# Altium integrated library TI Power Management PCMCIA and USB.IntLib: 328 symbols (part 5 of 14)
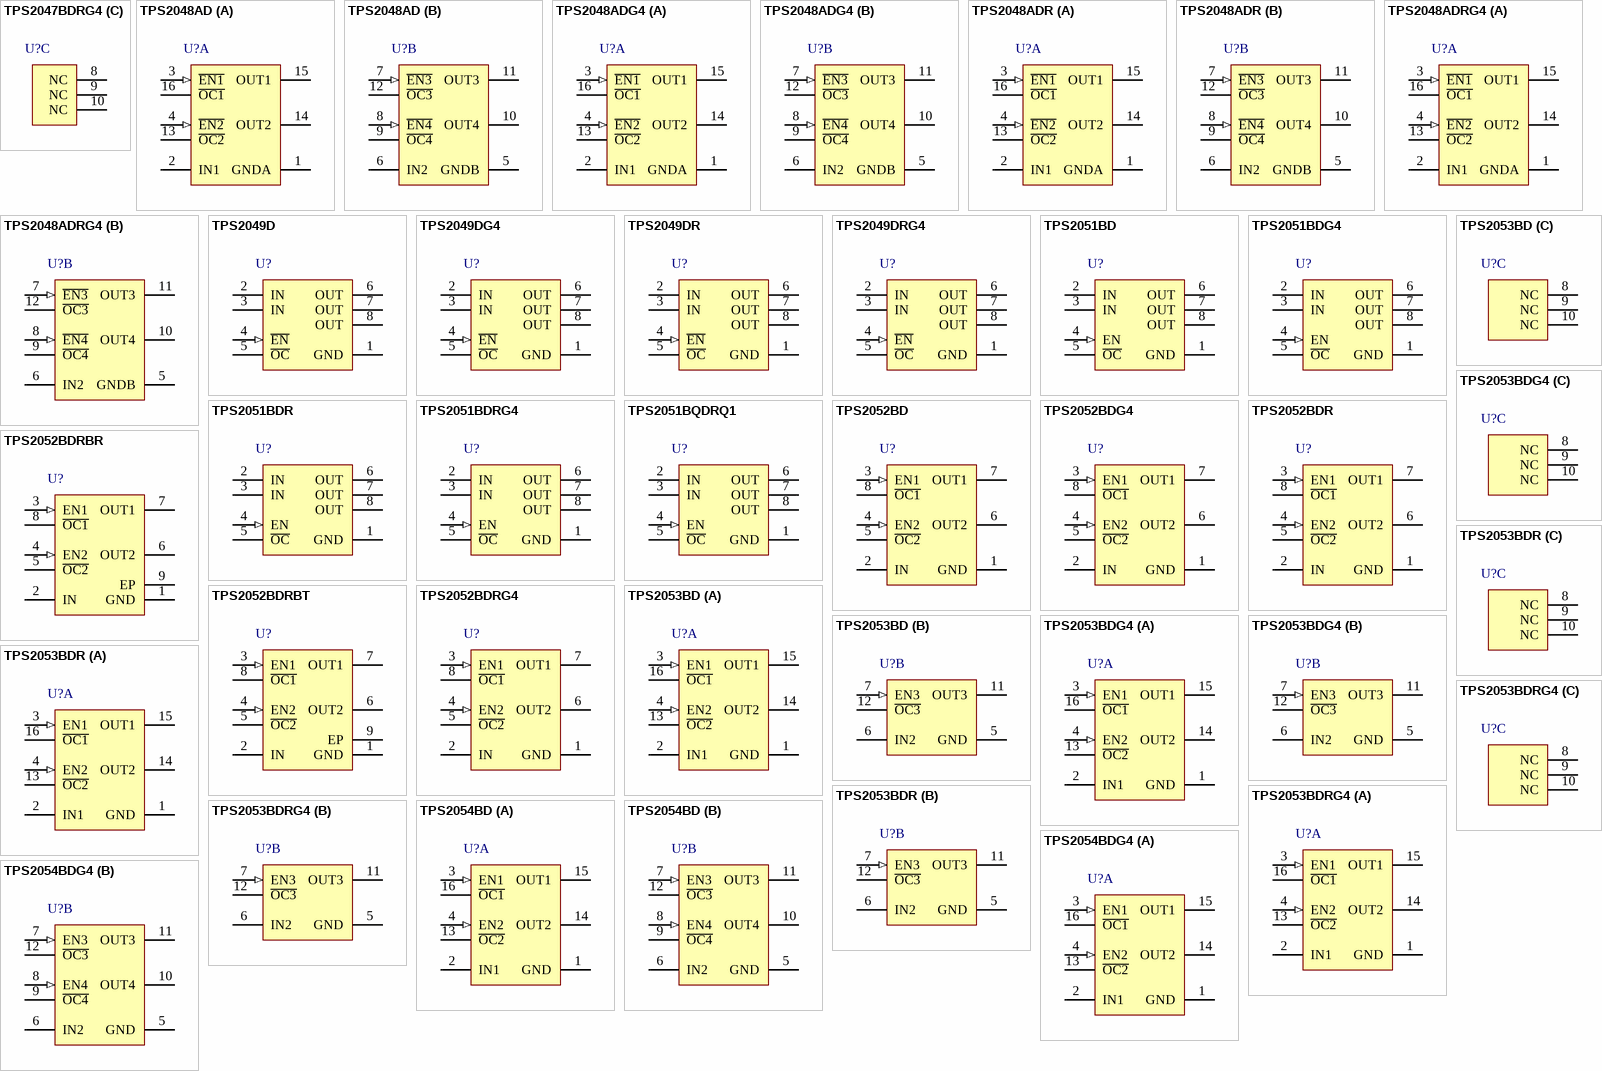
[diagram p14: symbols TPS2047BDRG4 to TPS2054BDG4]

## TPS2051BQDRQ1
designator U?
Automotive Catalog Single Current-Limited Power-Distribution Switch, 1 A Current Limit, -40 to 125 degC, 8-pin SOIC (D), Green (RoHS & no Sb/Br); Manufacturer: Texas Instruments; PartNumber: TPS2051BQDRQ1; Continuous Current(Max)(A): 0.5; Current Limit(A): 1; Enable: Active High; rDS(on) per FET(Typ)(mOhms): 70; Vin(Max)(V): 5.5; Vin(Min)(V): 2.7; DatasheetVersion: SLVS782B; PackageVersion: revM, Jun-2011; PackageReference: D8; PackageDescription: 8-Pin Plastic Small Outline Integrated Circuit, 4.9 x 3.9 mm, Pitch 1.27 mm Pitch; Supplier 1: Digi-Key; Supplier Part Number 1: 296-23725-2-ND; Supplier 2: Digi-Key; Supplier Part Number 2: 296-23725-1-ND; Supplier 3: Digi-Key; Supplier Part Number 3: 296-23725-6-ND; Supplier 4: Newark; Supplier Part Number 4: 65M6325; Supplier 5: Mouser; Supplier Part Number 5: 595-TPS2051BQDRQ1; Eco-Plan: Green (RoHS & no Sb/Br); Number of Switches: 1; Rating: Automotive; Mounting Technology: Surface Mount; Code_JEDEC: MS-012AA; ComponentLink1Description: Datasheet; ComponentLink1URL: http://www.ti.com/general/docs/lit/getliterature.tsp?genericPartNumber=TPS2051B-Q1&fileType=pdf
footprint D8_N (SOIC, 8-Leads, Body 4.9x3.9mm, Pitch 1.27mm, IPC Medium Density)
footprint D8_L (SOIC, 8-Leads, Body 4.9x3.9mm, Pitch 1.27mm, IPC High Density)
footprint D8_M (SOIC, 8-Leads, Body 4.9x3.9mm, Pitch 1.27mm, IPC Low Density)
pins: 1 GND (power) "Ground", 2 IN (power) "Input voltage", 3 IN (power) "Input voltage", 4 EN (in) "Enable input, logic high turns on power switch", 5 ~{OC} (oc) "Overcurrent open-drain output, active low", 6 OUT (power) "Power-switch output", 7 OUT (power) "Power-switch output", 8 OUT (power) "Power-switch output"

## TPS2052BD
designator U?
Current-Limited, Power-Distribution Switch, 1 A Current Limit, -40 to 85 degC, 8-pin SOIC (D), Green (RoHS & no Sb/Br); Manufacturer: Texas Instruments; PartNumber: TPS2052BD; Continuous Current(Max)(A): 0.5; Current Limit(A): 1; Enable: Active High; NEMKO: TRUE; Number of Switches: 2; Rating: Catalog; rDS(on) per FET(Typ)(mOhms): 70; Vin(Max)(V): 5.5; Vin(Min)(V): 2.7; DatasheetVersion: SLVS514L; PackageVersion: revM, Jun-2011; PackageReference: D8; PackageDescription: 8-Pin Plastic Small Outline Integrated Circuit, 4.9 x 3.9 mm, Pitch 1.27 mm Pitch; Supplier 1: Digi-Key; Supplier Part Number 1: 296-34585-5-ND; Supplier 2: Newark; Supplier Part Number 2: 44J2496; Supplier 3: Mouser; Supplier Part Number 3: 595-TPS2052BD; Eco-Plan: Green (RoHS & no Sb/Br); UL Listed: TRUE; Mounting Technology: Surface Mount; Code_JEDEC: MS-012AA; ComponentLink1Description: Datasheet; ComponentLink1URL: http://www.ti.com/general/docs/lit/getliterature.tsp?genericPartNumber=TPS2052B&fileType=pdf
footprint D8_N (SOIC, 8-Leads, Body 4.9x3.9mm, Pitch 1.27mm, IPC Medium Density)
footprint D8_L (SOIC, 8-Leads, Body 4.9x3.9mm, Pitch 1.27mm, IPC High Density)
footprint D8_M (SOIC, 8-Leads, Body 4.9x3.9mm, Pitch 1.27mm, IPC Low Density)
pins: 1 GND (power) "Ground", 2 IN (power) "Input voltage", 3 EN1 (in) "Enable input, logic high turns on power switch IN-OUT1", 4 EN2 (in) "Enable input, logic high turns on power switch IN-OUT2", 5 ~{OC2} (oc) "Overcurrent, open-drain output, active low, IN-OUT2", 6 OUT2 (power) "Power-switch output, IN-OUT2", 7 OUT1 (power) "Power-switch output, IN-OUT1", 8 ~{OC1} (oc) "Overcurrent, open-drain output, active low, IN-OUT1"

## TPS2052BDG4
designator U?
Current-Limited, Power-Distribution Switch, 1 A Current Limit, -40 to 85 degC, 8-pin SOIC (D), Green (RoHS & no Sb/Br); Manufacturer: Texas Instruments; PartNumber: TPS2052BDG4; Continuous Current(Max)(A): 0.5; Current Limit(A): 1; Enable: Active High; NEMKO: TRUE; Number of Switches: 2; Rating: Catalog; rDS(on) per FET(Typ)(mOhms): 70; Vin(Max)(V): 5.5; Vin(Min)(V): 2.7; DatasheetVersion: SLVS514L; PackageVersion: revM, Jun-2011; PackageReference: D8; PackageDescription: 8-Pin Plastic Small Outline Integrated Circuit, 4.9 x 3.9 mm, Pitch 1.27 mm Pitch; Supplier 1: Digi-Key; Supplier Part Number 1: TPS2052BDG4-ND; Supplier 2: Newark; Supplier Part Number 2: 33K7523; Supplier 3: Mouser; Supplier Part Number 3: 595-TPS2052BDG4; Eco-Plan: Green (RoHS & no Sb/Br); UL Listed: TRUE; Mounting Technology: Surface Mount; Code_JEDEC: MS-012AA; ComponentLink1Description: Datasheet; ComponentLink1URL: http://www.ti.com/general/docs/lit/getliterature.tsp?genericPartNumber=TPS2052B&fileType=pdf
footprint D8_N (SOIC, 8-Leads, Body 4.9x3.9mm, Pitch 1.27mm, IPC Medium Density)
footprint D8_L (SOIC, 8-Leads, Body 4.9x3.9mm, Pitch 1.27mm, IPC High Density)
footprint D8_M (SOIC, 8-Leads, Body 4.9x3.9mm, Pitch 1.27mm, IPC Low Density)
pins: 1 GND (power) "Ground", 2 IN (power) "Input voltage", 3 EN1 (in) "Enable input, logic high turns on power switch IN-OUT1", 4 EN2 (in) "Enable input, logic high turns on power switch IN-OUT2", 5 ~{OC2} (oc) "Overcurrent, open-drain output, active low, IN-OUT2", 6 OUT2 (power) "Power-switch output, IN-OUT2", 7 OUT1 (power) "Power-switch output, IN-OUT1", 8 ~{OC1} (oc) "Overcurrent, open-drain output, active low, IN-OUT1"

## TPS2052BDR
designator U?
Current-Limited, Power-Distribution Switch, 1 A Current Limit, -40 to 85 degC, 8-pin SOIC (D), Green (RoHS & no Sb/Br); Manufacturer: Texas Instruments; PartNumber: TPS2052BDR; Continuous Current(Max)(A): 0.5; Current Limit(A): 1; Enable: Active High; NEMKO: TRUE; Number of Switches: 2; Rating: Catalog; rDS(on) per FET(Typ)(mOhms): 70; Vin(Max)(V): 5.5; Vin(Min)(V): 2.7; DatasheetVersion: SLVS514L; PackageVersion: revM, Jun-2011; PackageReference: D8; PackageDescription: 8-Pin Plastic Small Outline Integrated Circuit, 4.9 x 3.9 mm, Pitch 1.27 mm Pitch; Supplier 1: Digi-Key; Supplier Part Number 1: 296-17451-2-ND; Supplier 2: Digi-Key; Supplier Part Number 2: 296-17451-1-ND; Supplier 3: Digi-Key; Supplier Part Number 3: 296-17451-6-ND; Supplier 4: Newark; Supplier Part Number 4: 44J2499; Supplier 5: Mouser; Supplier Part Number 5: 595-TPS2052BDR; Eco-Plan: Green (RoHS & no Sb/Br); UL Listed: TRUE; Mounting Technology: Surface Mount; Code_JEDEC: MS-012AA; ComponentLink1Description: Datasheet; ComponentLink1URL: http://www.ti.com/general/docs/lit/getliterature.tsp?genericPartNumber=TPS2052B&fileType=pdf
footprint D8_N (SOIC, 8-Leads, Body 4.9x3.9mm, Pitch 1.27mm, IPC Medium Density)
footprint D8_L (SOIC, 8-Leads, Body 4.9x3.9mm, Pitch 1.27mm, IPC High Density)
footprint D8_M (SOIC, 8-Leads, Body 4.9x3.9mm, Pitch 1.27mm, IPC Low Density)
pins: 1 GND (power) "Ground", 2 IN (power) "Input voltage", 3 EN1 (in) "Enable input, logic high turns on power switch IN-OUT1", 4 EN2 (in) "Enable input, logic high turns on power switch IN-OUT2", 5 ~{OC2} (oc) "Overcurrent, open-drain output, active low, IN-OUT2", 6 OUT2 (power) "Power-switch output, IN-OUT2", 7 OUT1 (power) "Power-switch output, IN-OUT1", 8 ~{OC1} (oc) "Overcurrent, open-drain output, active low, IN-OUT1"

## TPS2052BDRBR
designator U?
Current-Limited, Power-Distribution Switch, 1 A Current Limit, -40 to 85 degC, 8-pin SON (DRB), Green (RoHS & no Sb/Br); Manufacturer: Texas Instruments; PartNumber: TPS2052BDRBR; Continuous Current(Max)(A): 0.5; Current Limit(A): 1; Enable: Active High; NEMKO: TRUE; Number of Switches: 2; Rating: Catalog; rDS(on) per FET(Typ)(mOhms): 70; Vin(Max)(V): 5.5; Vin(Min)(V): 2.7; DatasheetVersion: SLVS514L; PackageVersion: revK, Jun-2012; PackageReference: DRB8-2400X1650TP; PackageDescription: 8-Pin Plastic Small Outline No-Lead, 3 x 3 x 1 mm Body, 0.65 mm Pitch, Exposed Pad; Supplier 1: Digi-Key; Supplier Part Number 1: TPS2052BDRBR-ND; Supplier 2: Newark; Supplier Part Number 2: 34P6467; Supplier 3: Mouser; Supplier Part Number 3: 595-TPS2052BDRBR; Eco-Plan: Green (RoHS & no Sb/Br); UL Listed: TRUE; Mounting Technology: Surface Mount; ComponentLink1Description: Datasheet; ComponentLink1URL: http://www.ti.com/general/docs/lit/getliterature.tsp?genericPartNumber=TPS2052B&fileType=pdf
footprint DRB8-2400X1650TP (SON, 8-Leads, Body 3x3mm, Pitch 0.65mm, Thermal Pad 2.4x1.65mm, TI Recommended)
pins: 1 GND (power) "Ground", 2 IN (power) "Input voltage", 3 EN1 (in) "Enable input, logic high turns on power switch IN-OUT1", 4 EN2 (in) "Enable input, logic high turns on power switch IN-OUT2", 5 ~{OC2} (oc) "Overcurrent, open-drain output, active low, IN-OUT2", 6 OUT2 (power) "Power-switch output, IN-OUT2", 7 OUT1 (power) "Power-switch output, IN-OUT1", 8 ~{OC1} (oc) "Overcurrent, open-drain output, active low, IN-OUT1", 9 EP (power) "Internally connected to GND; used to heat-sink the part to the circuit board traces. Should be connected to GND pin."

## TPS2052BDRBT
designator U?
Current-Limited, Power-Distribution Switch, 1 A Current Limit, -40 to 85 degC, 8-pin SON (DRB), Green (RoHS & no Sb/Br); Manufacturer: Texas Instruments; PartNumber: TPS2052BDRBT; Continuous Current(Max)(A): 0.5; Current Limit(A): 1; Enable: Active High; NEMKO: TRUE; Number of Switches: 2; Rating: Catalog; rDS(on) per FET(Typ)(mOhms): 70; Vin(Max)(V): 5.5; Vin(Min)(V): 2.7; DatasheetVersion: SLVS514L; PackageVersion: revK, Jun-2012; PackageReference: DRB8-2400X1650TP; PackageDescription: 8-Pin Plastic Small Outline No-Lead, 3 x 3 x 1 mm Body, 0.65 mm Pitch, Exposed Pad; Supplier 1: Digi-Key; Supplier Part Number 1: 296-23967-2-ND; Supplier 2: Digi-Key; Supplier Part Number 2: 296-23967-1-ND; Supplier 3: Digi-Key; Supplier Part Number 3: 296-23967-6-ND; Supplier 4: Newark; Supplier Part Number 4: 34P6468; Supplier 5: Mouser; Supplier Part Number 5: 595-TPS2052BDRBT; Eco-Plan: Green (RoHS & no Sb/Br); UL Listed: TRUE; Mounting Technology: Surface Mount; ComponentLink1Description: Datasheet; ComponentLink1URL: http://www.ti.com/general/docs/lit/getliterature.tsp?genericPartNumber=TPS2052B&fileType=pdf
footprint DRB8-2400X1650TP (SON, 8-Leads, Body 3x3mm, Pitch 0.65mm, Thermal Pad 2.4x1.65mm, TI Recommended)
pins: 1 GND (power) "Ground", 2 IN (power) "Input voltage", 3 EN1 (in) "Enable input, logic high turns on power switch IN-OUT1", 4 EN2 (in) "Enable input, logic high turns on power switch IN-OUT2", 5 ~{OC2} (oc) "Overcurrent, open-drain output, active low, IN-OUT2", 6 OUT2 (power) "Power-switch output, IN-OUT2", 7 OUT1 (power) "Power-switch output, IN-OUT1", 8 ~{OC1} (oc) "Overcurrent, open-drain output, active low, IN-OUT1", 9 EP (power) "Internally connected to GND; used to heat-sink the part to the circuit board traces. Should be connected to GND pin."

## TPS2052BDRG4
designator U?
Current-Limited, Power-Distribution Switch, 1 A Current Limit, -40 to 85 degC, 8-pin SOIC (D), Green (RoHS & no Sb/Br); Manufacturer: Texas Instruments; PartNumber: TPS2052BDRG4; Continuous Current(Max)(A): 0.5; Current Limit(A): 1; Enable: Active High; NEMKO: TRUE; Number of Switches: 2; Rating: Catalog; rDS(on) per FET(Typ)(mOhms): 70; Vin(Max)(V): 5.5; Vin(Min)(V): 2.7; DatasheetVersion: SLVS514L; PackageVersion: revM, Jun-2011; PackageReference: D8; PackageDescription: 8-Pin Plastic Small Outline Integrated Circuit, 4.9 x 3.9 mm, Pitch 1.27 mm Pitch; Supplier 1: Digi-Key; Supplier Part Number 1: TPS2052BDRG4-ND; Supplier 2: Newark; Supplier Part Number 2: 33K7524; Supplier 3: Mouser; Supplier Part Number 3: 595-TPS2052BDRG4; Eco-Plan: Green (RoHS & no Sb/Br); UL Listed: TRUE; Mounting Technology: Surface Mount; Code_JEDEC: MS-012AA; ComponentLink1Description: Datasheet; ComponentLink1URL: http://www.ti.com/general/docs/lit/getliterature.tsp?genericPartNumber=TPS2052B&fileType=pdf
footprint D8_N (SOIC, 8-Leads, Body 4.9x3.9mm, Pitch 1.27mm, IPC Medium Density)
footprint D8_L (SOIC, 8-Leads, Body 4.9x3.9mm, Pitch 1.27mm, IPC High Density)
footprint D8_M (SOIC, 8-Leads, Body 4.9x3.9mm, Pitch 1.27mm, IPC Low Density)
pins: 1 GND (power) "Ground", 2 IN (power) "Input voltage", 3 EN1 (in) "Enable input, logic high turns on power switch IN-OUT1", 4 EN2 (in) "Enable input, logic high turns on power switch IN-OUT2", 5 ~{OC2} (oc) "Overcurrent, open-drain output, active low, IN-OUT2", 6 OUT2 (power) "Power-switch output, IN-OUT2", 7 OUT1 (power) "Power-switch output, IN-OUT1", 8 ~{OC1} (oc) "Overcurrent, open-drain output, active low, IN-OUT1"

## TPS2053BD
designator U?
Triple Power-Distribution & USB Power Switch, 1 A Current Limit, -40 to 85 degC, 16-pin SOIC (D), Green (RoHS & no Sb/Br); Manufacturer: Texas Instruments; PartNumber: TPS2053BD; Continuous Current(Max)(A): 0.5; Current Limit(A): 1; Enable: Active High; NEMKO: TRUE; Number of Switches: 3; Rating: Catalog; rDS(on) per FET(Typ)(mOhms): 70; Vin(Max)(V): 5.5; Vin(Min)(V): 2.7; DatasheetVersion: SLVS514L; PackageVersion: revM, Jun-2011; PackageReference: D16; PackageDescription: 16-Pin Plastic Small Outline Integrated Circuit, 9.9 x 3.9 mm, Pitch 1.27 mm Pitch; Supplier 1: Digi-Key; Supplier Part Number 1: 296-18932-5-ND; Supplier 2: Newark; Supplier Part Number 2: 01J0952; Supplier 3: Mouser; Supplier Part Number 3: 595-TPS2053BD; Eco-Plan: Green (RoHS & no Sb/Br); UL Listed: TRUE; Mounting Technology: Surface Mount; Code_JEDEC: MS-012AC; ComponentLink1Description: Datasheet; ComponentLink1URL: http://www.ti.com/general/docs/lit/getliterature.tsp?genericPartNumber=TPS2053B&fileType=pdf
footprint D16_N (SOIC, 16-Leads, Body 9.9x3.9mm, Pitch 1.27mm, IPC Medium Density)
footprint D16_L (SOIC, 16-Leads, Body 9.9x3.9mm, Pitch 1.27mm, IPC High Density)
footprint D16_M (SOIC, 16-Leads, Body 9.9x3.9mm, Pitch 1.27mm, IPC Low Density)
part A pins: 1 GND (power) "Ground", 2 IN1 (power) "Input voltage for OUT1 and OUT2", 3 EN1 (in) "Enable input, logic high turns on power switch IN1-OUT1", 4 EN2 (in) "Enable input, logic high turns on power switch IN1-OUT2", 13 ~{OC2} (oc) "Overcurrent, open-drain output, active low, IN1-OUT2", 14 OUT2 (power) "Power-switch output, IN1-OUT2", 15 OUT1 (power) "Power-switch output, IN1-OUT1", 16 ~{OC1} (oc) "Overcurrent, open-drain output, active low, IN1-OUT1"
part B pins: 5 GND (power) "Ground", 6 IN2 (power) "Input voltage for OUT3", 7 EN3 (in) "Enable input, logic high turns on power switch IN2-OUT3", 11 OUT3 (power) "Power-switch output, IN2-OUT3", 12 ~{OC3} (oc) "Overcurrent, open-drain output, active low, IN2-OUT3"
part C pins: 8 NC "No connection", 9 NC "No connection", 10 NC "No connection"

## TPS2053BDG4
designator U?
Triple Power-Distribution & USB Power Switch, 1 A Current Limit, -40 to 85 degC, 16-pin SOIC (D), Green (RoHS & no Sb/Br); Manufacturer: Texas Instruments; PartNumber: TPS2053BDG4; Continuous Current(Max)(A): 0.5; Current Limit(A): 1; Enable: Active High; NEMKO: TRUE; Number of Switches: 3; Rating: Catalog; rDS(on) per FET(Typ)(mOhms): 70; Vin(Max)(V): 5.5; Vin(Min)(V): 2.7; DatasheetVersion: SLVS514L; PackageVersion: revM, Jun-2011; PackageReference: D16; PackageDescription: 16-Pin Plastic Small Outline Integrated Circuit, 9.9 x 3.9 mm, Pitch 1.27 mm Pitch; Supplier 1: Digi-Key; Supplier Part Number 1: TPS2053BDG4-ND; Supplier 2: Newark; Supplier Part Number 2: 99K4391; Supplier 3: Mouser; Supplier Part Number 3: 595-TPS2053BDG4; Eco-Plan: Green (RoHS & no Sb/Br); UL Listed: TRUE; Mounting Technology: Surface Mount; Code_JEDEC: MS-012AC; ComponentLink1Description: Datasheet; ComponentLink1URL: http://www.ti.com/general/docs/lit/getliterature.tsp?genericPartNumber=TPS2053B&fileType=pdf
footprint D16_N (SOIC, 16-Leads, Body 9.9x3.9mm, Pitch 1.27mm, IPC Medium Density)
footprint D16_L (SOIC, 16-Leads, Body 9.9x3.9mm, Pitch 1.27mm, IPC High Density)
footprint D16_M (SOIC, 16-Leads, Body 9.9x3.9mm, Pitch 1.27mm, IPC Low Density)
part A pins: 1 GND (power) "Ground", 2 IN1 (power) "Input voltage for OUT1 and OUT2", 3 EN1 (in) "Enable input, logic high turns on power switch IN1-OUT1", 4 EN2 (in) "Enable input, logic high turns on power switch IN1-OUT2", 13 ~{OC2} (oc) "Overcurrent, open-drain output, active low, IN1-OUT2", 14 OUT2 (power) "Power-switch output, IN1-OUT2", 15 OUT1 (power) "Power-switch output, IN1-OUT1", 16 ~{OC1} (oc) "Overcurrent, open-drain output, active low, IN1-OUT1"
part B pins: 5 GND (power) "Ground", 6 IN2 (power) "Input voltage for OUT3", 7 EN3 (in) "Enable input, logic high turns on power switch IN2-OUT3", 11 OUT3 (power) "Power-switch output, IN2-OUT3", 12 ~{OC3} (oc) "Overcurrent, open-drain output, active low, IN2-OUT3"
part C pins: 8 NC "No connection", 9 NC "No connection", 10 NC "No connection"

## TPS2053BDR
designator U?
Triple Power-Distribution & USB Power Switch, 1 A Current Limit, -40 to 85 degC, 16-pin SOIC (D), Green (RoHS & no Sb/Br); Manufacturer: Texas Instruments; PartNumber: TPS2053BDR; Continuous Current(Max)(A): 0.5; Current Limit(A): 1; Enable: Active High; NEMKO: TRUE; Number of Switches: 3; Rating: Catalog; rDS(on) per FET(Typ)(mOhms): 70; Vin(Max)(V): 5.5; Vin(Min)(V): 2.7; DatasheetVersion: SLVS514L; PackageVersion: revM, Jun-2011; PackageReference: D16; PackageDescription: 16-Pin Plastic Small Outline Integrated Circuit, 9.9 x 3.9 mm, Pitch 1.27 mm Pitch; Supplier 1: Digi-Key; Supplier Part Number 1: TPS2053BDR-ND; Supplier 2: Newark; Supplier Part Number 2: 01J0953; Supplier 3: Mouser; Supplier Part Number 3: 595-TPS2053BDR; Eco-Plan: Green (RoHS & no Sb/Br); UL Listed: TRUE; Mounting Technology: Surface Mount; Code_JEDEC: MS-012AC; ComponentLink1Description: Datasheet; ComponentLink1URL: http://www.ti.com/general/docs/lit/getliterature.tsp?genericPartNumber=TPS2053B&fileType=pdf
footprint D16_N (SOIC, 16-Leads, Body 9.9x3.9mm, Pitch 1.27mm, IPC Medium Density)
footprint D16_L (SOIC, 16-Leads, Body 9.9x3.9mm, Pitch 1.27mm, IPC High Density)
footprint D16_M (SOIC, 16-Leads, Body 9.9x3.9mm, Pitch 1.27mm, IPC Low Density)
part A pins: 1 GND (power) "Ground", 2 IN1 (power) "Input voltage for OUT1 and OUT2", 3 EN1 (in) "Enable input, logic high turns on power switch IN1-OUT1", 4 EN2 (in) "Enable input, logic high turns on power switch IN1-OUT2", 13 ~{OC2} (oc) "Overcurrent, open-drain output, active low, IN1-OUT2", 14 OUT2 (power) "Power-switch output, IN1-OUT2", 15 OUT1 (power) "Power-switch output, IN1-OUT1", 16 ~{OC1} (oc) "Overcurrent, open-drain output, active low, IN1-OUT1"
part B pins: 5 GND (power) "Ground", 6 IN2 (power) "Input voltage for OUT3", 7 EN3 (in) "Enable input, logic high turns on power switch IN2-OUT3", 11 OUT3 (power) "Power-switch output, IN2-OUT3", 12 ~{OC3} (oc) "Overcurrent, open-drain output, active low, IN2-OUT3"
part C pins: 8 NC "No connection", 9 NC "No connection", 10 NC "No connection"

## TPS2053BDRG4
designator U?
Triple Power-Distribution & USB Power Switch, 1 A Current Limit, -40 to 85 degC, 16-pin SOIC (D), Green (RoHS & no Sb/Br); Manufacturer: Texas Instruments; PartNumber: TPS2053BDRG4; Continuous Current(Max)(A): 0.5; Current Limit(A): 1; Enable: Active High; NEMKO: TRUE; Number of Switches: 3; Rating: Catalog; rDS(on) per FET(Typ)(mOhms): 70; Vin(Max)(V): 5.5; Vin(Min)(V): 2.7; DatasheetVersion: SLVS514L; PackageVersion: revM, Jun-2011; PackageReference: D16; PackageDescription: 16-Pin Plastic Small Outline Integrated Circuit, 9.9 x 3.9 mm, Pitch 1.27 mm Pitch; Supplier 1: Digi-Key; Supplier Part Number 1: TPS2053BDRG4-ND; Supplier 2: Newark; Supplier Part Number 2: 33K7525; Supplier 3: Mouser; Supplier Part Number 3: 595-TPS2053BDRG4; Eco-Plan: Green (RoHS & no Sb/Br); UL Listed: TRUE; Mounting Technology: Surface Mount; Code_JEDEC: MS-012AC; ComponentLink1Description: Datasheet; ComponentLink1URL: http://www.ti.com/general/docs/lit/getliterature.tsp?genericPartNumber=TPS2053B&fileType=pdf
footprint D16_N (SOIC, 16-Leads, Body 9.9x3.9mm, Pitch 1.27mm, IPC Medium Density)
footprint D16_L (SOIC, 16-Leads, Body 9.9x3.9mm, Pitch 1.27mm, IPC High Density)
footprint D16_M (SOIC, 16-Leads, Body 9.9x3.9mm, Pitch 1.27mm, IPC Low Density)
part A pins: 1 GND (power) "Ground", 2 IN1 (power) "Input voltage for OUT1 and OUT2", 3 EN1 (in) "Enable input, logic high turns on power switch IN1-OUT1", 4 EN2 (in) "Enable input, logic high turns on power switch IN1-OUT2", 13 ~{OC2} (oc) "Overcurrent, open-drain output, active low, IN1-OUT2", 14 OUT2 (power) "Power-switch output, IN1-OUT2", 15 OUT1 (power) "Power-switch output, IN1-OUT1", 16 ~{OC1} (oc) "Overcurrent, open-drain output, active low, IN1-OUT1"
part B pins: 5 GND (power) "Ground", 6 IN2 (power) "Input voltage for OUT3", 7 EN3 (in) "Enable input, logic high turns on power switch IN2-OUT3", 11 OUT3 (power) "Power-switch output, IN2-OUT3", 12 ~{OC3} (oc) "Overcurrent, open-drain output, active low, IN2-OUT3"
part C pins: 8 NC "No connection", 9 NC "No connection", 10 NC "No connection"

## TPS2054BD
designator U?
Quad Current-Limited Power-Distribution Switch, 1 A Current Limit, -40 to 85 degC, 16-pin SOIC (D), Green (RoHS & no Sb/Br); Manufacturer: Texas Instruments; PartNumber: TPS2054BD; Continuous Current(Max)(A): 0.5; Current Limit(A): 1; Enable: Active High; NEMKO: TRUE; Number of Switches: 4; Rating: Catalog; rDS(on) per FET(Typ)(mOhms): 70; Vin(Max)(V): 5.5; Vin(Min)(V): 2.7; DatasheetVersion: SLVS514L; PackageVersion: revM, Jun-2011; PackageReference: D16; PackageDescription: 16-Pin Plastic Small Outline Integrated Circuit, 9.9 x 3.9 mm, Pitch 1.27 mm Pitch; Supplier 1: Digi-Key; Supplier Part Number 1: 296-34586-5-ND; Supplier 2: Newark; Supplier Part Number 2: 10J9739; Supplier 3: Mouser; Supplier Part Number 3: 595-TPS2054BD; Eco-Plan: Green (RoHS & no Sb/Br); UL Listed: TRUE; Mounting Technology: Surface Mount; Code_JEDEC: MS-012AC; ComponentLink1Description: Datasheet; ComponentLink1URL: http://www.ti.com/general/docs/lit/getliterature.tsp?genericPartNumber=TPS2054B&fileType=pdf
footprint D16_N (SOIC, 16-Leads, Body 9.9x3.9mm, Pitch 1.27mm, IPC Medium Density)
footprint D16_L (SOIC, 16-Leads, Body 9.9x3.9mm, Pitch 1.27mm, IPC High Density)
footprint D16_M (SOIC, 16-Leads, Body 9.9x3.9mm, Pitch 1.27mm, IPC Low Density)
part A pins: 1 GND (power) "Ground", 2 IN1 (power) "Input voltage for OUT1 and OUT2", 3 EN1 (in) "Enable input, logic high turns on power switch IN1-OUT1", 4 EN2 (in) "Enable input, logic high turns on power switch IN1-OUT2", 13 ~{OC2} (oc) "Overcurrent, open-drain output, active low, IN1-OUT2", 14 OUT2 (power) "Power-switch output, IN1-OUT2", 15 OUT1 (power) "Power-switch output, IN1-OUT1", 16 ~{OC1} (oc) "Overcurrent, open-drain output, active low, IN1-OUT1"
part B pins: 5 GND (power) "Ground", 6 IN2 (power) "Input voltage for OUT3", 7 EN3 (in) "Enable input, logic high turns on power switch IN2-OUT3", 8 EN4 (in) "Enable input, logic high turns on power switch IN2-OUT4", 9 ~{OC4} (oc) "Overcurrent, open-drain output, active low, IN2-OUT4", 10 OUT4 (power) "Power-switch output, IN2-OUT4", 11 OUT3 (power) "Power-switch output, IN2-OUT3", 12 ~{OC3} (oc) "Overcurrent, open-drain output, active low, IN2-OUT3"

## TPS2054BDG4
designator U?
Quad Current-Limited Power-Distribution Switch, 1 A Current Limit, -40 to 85 degC, 16-pin SOIC (D), Green (RoHS & no Sb/Br); Manufacturer: Texas Instruments; PartNumber: TPS2054BDG4; Continuous Current(Max)(A): 0.5; Current Limit(A): 1; Enable: Active High; NEMKO: TRUE; Number of Switches: 4; Rating: Catalog; rDS(on) per FET(Typ)(mOhms): 70; Vin(Max)(V): 5.5; Vin(Min)(V): 2.7; DatasheetVersion: SLVS514L; PackageVersion: revM, Jun-2011; PackageReference: D16; PackageDescription: 16-Pin Plastic Small Outline Integrated Circuit, 9.9 x 3.9 mm, Pitch 1.27 mm Pitch; Supplier 1: Digi-Key; Supplier Part Number 1: TPS2054BDG4-ND; Supplier 2: Mouser; Supplier Part Number 2: 595-TPS2054BDG4; Eco-Plan: Green (RoHS & no Sb/Br); UL Listed: TRUE; Mounting Technology: Surface Mount; Code_JEDEC: MS-012AC; ComponentLink1Description: Datasheet; ComponentLink1URL: http://www.ti.com/general/docs/lit/getliterature.tsp?genericPartNumber=TPS2054B&fileType=pdf
footprint D16_N (SOIC, 16-Leads, Body 9.9x3.9mm, Pitch 1.27mm, IPC Medium Density)
footprint D16_L (SOIC, 16-Leads, Body 9.9x3.9mm, Pitch 1.27mm, IPC High Density)
footprint D16_M (SOIC, 16-Leads, Body 9.9x3.9mm, Pitch 1.27mm, IPC Low Density)
part A pins: 1 GND (power) "Ground", 2 IN1 (power) "Input voltage for OUT1 and OUT2", 3 EN1 (in) "Enable input, logic high turns on power switch IN1-OUT1", 4 EN2 (in) "Enable input, logic high turns on power switch IN1-OUT2", 13 ~{OC2} (oc) "Overcurrent, open-drain output, active low, IN1-OUT2", 14 OUT2 (power) "Power-switch output, IN1-OUT2", 15 OUT1 (power) "Power-switch output, IN1-OUT1", 16 ~{OC1} (oc) "Overcurrent, open-drain output, active low, IN1-OUT1"
part B pins: 5 GND (power) "Ground", 6 IN2 (power) "Input voltage for OUT3", 7 EN3 (in) "Enable input, logic high turns on power switch IN2-OUT3", 8 EN4 (in) "Enable input, logic high turns on power switch IN2-OUT4", 9 ~{OC4} (oc) "Overcurrent, open-drain output, active low, IN2-OUT4", 10 OUT4 (power) "Power-switch output, IN2-OUT4", 11 OUT3 (power) "Power-switch output, IN2-OUT3", 12 ~{OC3} (oc) "Overcurrent, open-drain output, active low, IN2-OUT3"

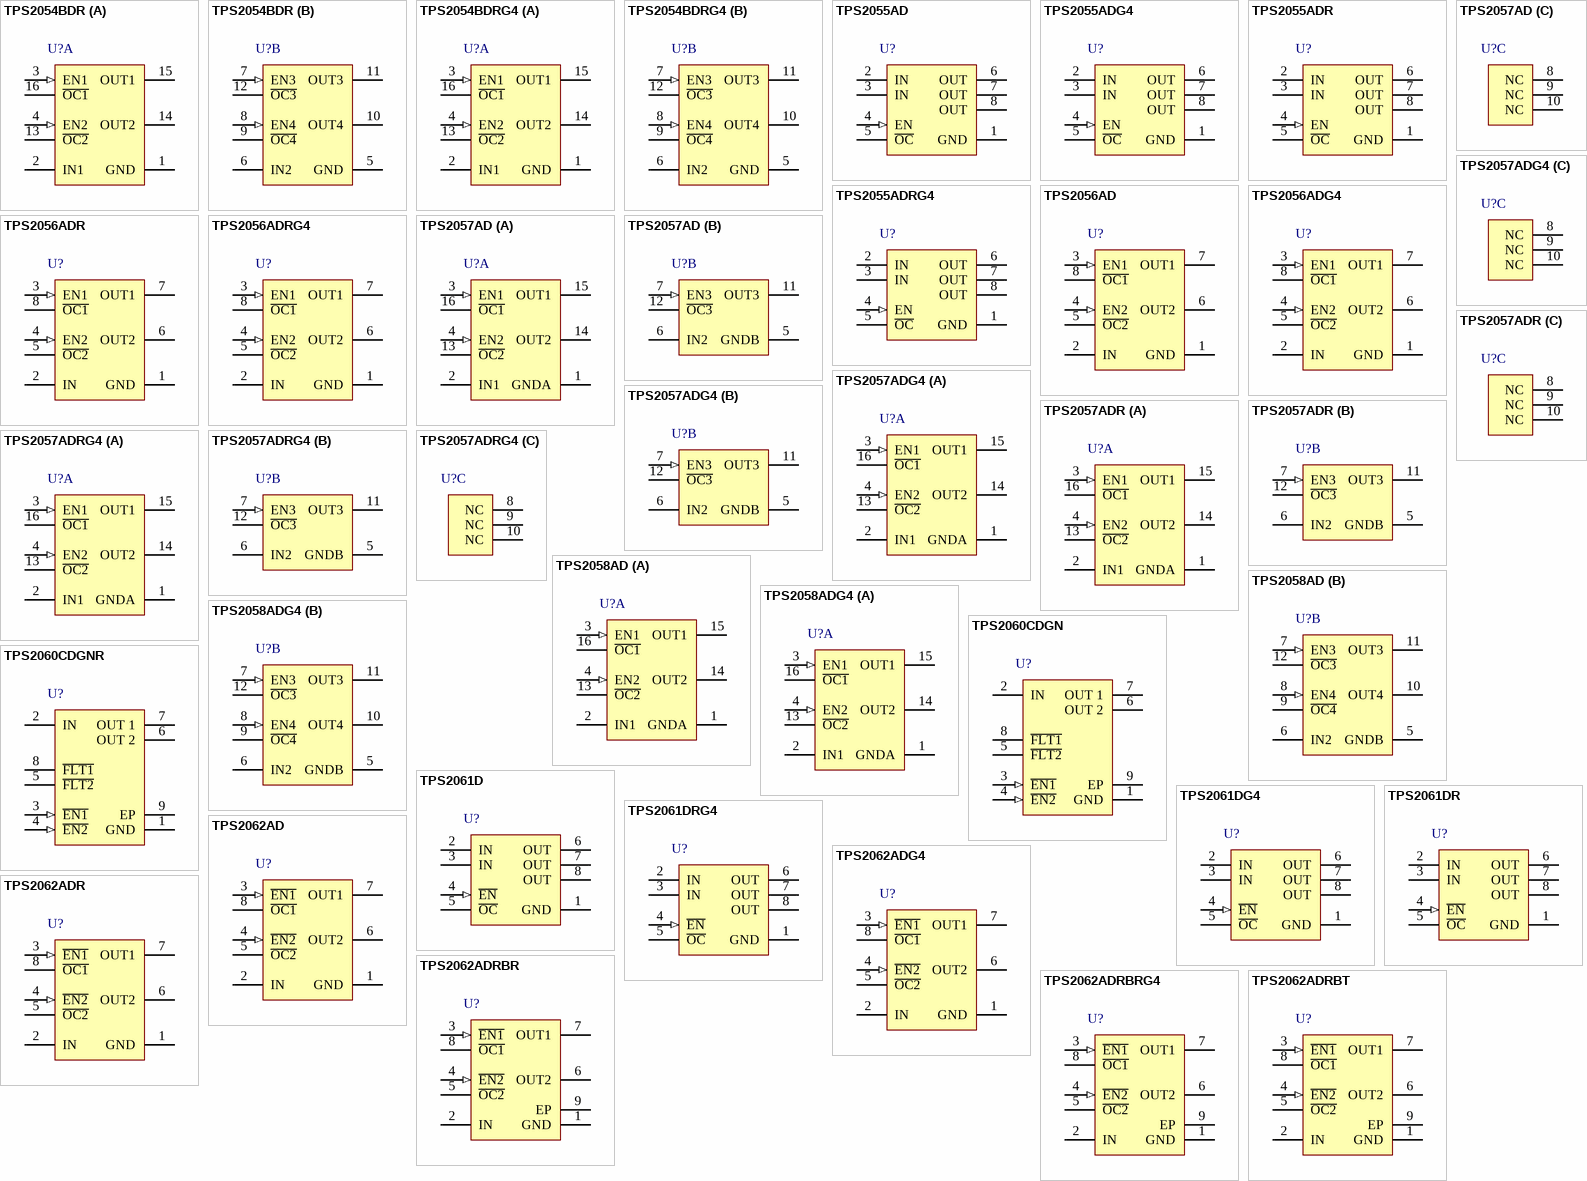
[diagram p4: symbols TPS2054BDR to TPS2062ADRBT]

## TPS2054BDR
designator U?
Quad Current-Limited Power-Distribution Switch, 1 A Current Limit, -40 to 85 degC, 16-pin SOIC (D), Green (RoHS & no Sb/Br); Manufacturer: Texas Instruments; PartNumber: TPS2054BDR; Continuous Current(Max)(A): 0.5; Current Limit(A): 1; Enable: Active High; NEMKO: TRUE; Number of Switches: 4; Rating: Catalog; rDS(on) per FET(Typ)(mOhms): 70; Vin(Max)(V): 5.5; Vin(Min)(V): 2.7; DatasheetVersion: SLVS514L; PackageVersion: revM, Jun-2011; PackageReference: D16; PackageDescription: 16-Pin Plastic Small Outline Integrated Circuit, 9.9 x 3.9 mm, Pitch 1.27 mm Pitch; Supplier 1: Digi-Key; Supplier Part Number 1: 296-16988-2-ND; Supplier 2: Digi-Key; Supplier Part Number 2: 296-16988-1-ND; Supplier 3: Digi-Key; Supplier Part Number 3: 296-16988-6-ND; Supplier 4: Newark; Supplier Part Number 4: 10J9740; Supplier 5: Mouser; Supplier Part Number 5: 595-TPS2054BDR; Eco-Plan: Green (RoHS & no Sb/Br); UL Listed: TRUE; Mounting Technology: Surface Mount; Code_JEDEC: MS-012AC; ComponentLink1Description: Datasheet; ComponentLink1URL: http://www.ti.com/general/docs/lit/getliterature.tsp?genericPartNumber=TPS2054B&fileType=pdf
footprint D16_N (SOIC, 16-Leads, Body 9.9x3.9mm, Pitch 1.27mm, IPC Medium Density)
footprint D16_L (SOIC, 16-Leads, Body 9.9x3.9mm, Pitch 1.27mm, IPC High Density)
footprint D16_M (SOIC, 16-Leads, Body 9.9x3.9mm, Pitch 1.27mm, IPC Low Density)
part A pins: 1 GND (power) "Ground", 2 IN1 (power) "Input voltage for OUT1 and OUT2", 3 EN1 (in) "Enable input, logic high turns on power switch IN1-OUT1", 4 EN2 (in) "Enable input, logic high turns on power switch IN1-OUT2", 13 ~{OC2} (oc) "Overcurrent, open-drain output, active low, IN1-OUT2", 14 OUT2 (power) "Power-switch output, IN1-OUT2", 15 OUT1 (power) "Power-switch output, IN1-OUT1", 16 ~{OC1} (oc) "Overcurrent, open-drain output, active low, IN1-OUT1"
part B pins: 5 GND (power) "Ground", 6 IN2 (power) "Input voltage for OUT3", 7 EN3 (in) "Enable input, logic high turns on power switch IN2-OUT3", 8 EN4 (in) "Enable input, logic high turns on power switch IN2-OUT4", 9 ~{OC4} (oc) "Overcurrent, open-drain output, active low, IN2-OUT4", 10 OUT4 (power) "Power-switch output, IN2-OUT4", 11 OUT3 (power) "Power-switch output, IN2-OUT3", 12 ~{OC3} (oc) "Overcurrent, open-drain output, active low, IN2-OUT3"

## TPS2054BDRG4
designator U?
Quad Current-Limited Power-Distribution Switch, 1 A Current Limit, -40 to 85 degC, 16-pin SOIC (D), Green (RoHS & no Sb/Br); Manufacturer: Texas Instruments; PartNumber: TPS2054BDRG4; Continuous Current(Max)(A): 0.5; Current Limit(A): 1; Enable: Active High; NEMKO: TRUE; Number of Switches: 4; Rating: Catalog; rDS(on) per FET(Typ)(mOhms): 70; Vin(Max)(V): 5.5; Vin(Min)(V): 2.7; DatasheetVersion: SLVS514L; PackageVersion: revM, Jun-2011; PackageReference: D16; PackageDescription: 16-Pin Plastic Small Outline Integrated Circuit, 9.9 x 3.9 mm, Pitch 1.27 mm Pitch; Supplier 1: Digi-Key; Supplier Part Number 1: TPS2054BDRG4-ND; Supplier 2: Mouser; Supplier Part Number 2: 595-TPS2054BDRG4; Eco-Plan: Green (RoHS & no Sb/Br); UL Listed: TRUE; Mounting Technology: Surface Mount; Code_JEDEC: MS-012AC; ComponentLink1Description: Datasheet; ComponentLink1URL: http://www.ti.com/general/docs/lit/getliterature.tsp?genericPartNumber=TPS2054B&fileType=pdf
footprint D16_N (SOIC, 16-Leads, Body 9.9x3.9mm, Pitch 1.27mm, IPC Medium Density)
footprint D16_L (SOIC, 16-Leads, Body 9.9x3.9mm, Pitch 1.27mm, IPC High Density)
footprint D16_M (SOIC, 16-Leads, Body 9.9x3.9mm, Pitch 1.27mm, IPC Low Density)
part A pins: 1 GND (power) "Ground", 2 IN1 (power) "Input voltage for OUT1 and OUT2", 3 EN1 (in) "Enable input, logic high turns on power switch IN1-OUT1", 4 EN2 (in) "Enable input, logic high turns on power switch IN1-OUT2", 13 ~{OC2} (oc) "Overcurrent, open-drain output, active low, IN1-OUT2", 14 OUT2 (power) "Power-switch output, IN1-OUT2", 15 OUT1 (power) "Power-switch output, IN1-OUT1", 16 ~{OC1} (oc) "Overcurrent, open-drain output, active low, IN1-OUT1"
part B pins: 5 GND (power) "Ground", 6 IN2 (power) "Input voltage for OUT3", 7 EN3 (in) "Enable input, logic high turns on power switch IN2-OUT3", 8 EN4 (in) "Enable input, logic high turns on power switch IN2-OUT4", 9 ~{OC4} (oc) "Overcurrent, open-drain output, active low, IN2-OUT4", 10 OUT4 (power) "Power-switch output, IN2-OUT4", 11 OUT3 (power) "Power-switch output, IN2-OUT3", 12 ~{OC3} (oc) "Overcurrent, open-drain output, active low, IN2-OUT3"

## TPS2055AD
designator U?
0.345 A, 2.7 to 5.5 V Single Hi-Side MOSFET, Fault Report, Act-High Enable, 0.5 A Current Limit, 0 to 85 degC, 8-pin SOIC (D), Green (RoHS & no Sb/Br); Manufacturer: Texas Instruments; PartNumber: TPS2055AD; Continuous Current(Max)(A): 0.25; Current Limit(A): 0.5; Enable: Active High; NEMKO: TRUE; Number of Switches: 1; Rating: Catalog; rDS(on) per FET(Typ)(mOhms): 80; Vin(Max)(V): 5.5; Vin(Min)(V): 2.7; DatasheetVersion: SLVS251C; PackageVersion: revM, Jun-2011; PackageReference: D8; PackageDescription: 8-Pin Plastic Small Outline Integrated Circuit, 4.9 x 3.9 mm, Pitch 1.27 mm Pitch; Supplier 1: Digi-Key; Supplier Part Number 1: 296-3418-5-ND; Supplier 2: Newark; Supplier Part Number 2: 77C0013; Supplier 3: Mouser; Supplier Part Number 3: 595-TPS2055AD; Eco-Plan: Green (RoHS & no Sb/Br); UL Listed: TRUE; Mounting Technology: Surface Mount; Code_JEDEC: MS-012AA; ComponentLink1Description: Datasheet; ComponentLink1URL: http://www.ti.com/general/docs/lit/getliterature.tsp?genericPartNumber=TPS2055A&fileType=pdf
footprint D8_N (SOIC, 8-Leads, Body 4.9x3.9mm, Pitch 1.27mm, IPC Medium Density)
footprint D8_L (SOIC, 8-Leads, Body 4.9x3.9mm, Pitch 1.27mm, IPC High Density)
footprint D8_M (SOIC, 8-Leads, Body 4.9x3.9mm, Pitch 1.27mm, IPC Low Density)
pins: 1 GND (power) "Ground", 2 IN (power) "Input voltage", 3 IN (power) "Input voltage", 4 EN (in) "Enable input. Logic high turns on power switch.", 5 ~{OC} (oc) "Overcurrent. Open drain output active low", 6 OUT (power) "Power-switch output", 7 OUT (power) "Power-switch output", 8 OUT (power) "Power-switch output"

## TPS2055ADG4
designator U?
0.345 A, 2.7 to 5.5 V Single Hi-Side MOSFET, Fault Report, Act-High Enable, 0.5 A Current Limit, 0 to 85 degC, 8-pin SOIC (D), Green (RoHS & no Sb/Br); Manufacturer: Texas Instruments; PartNumber: TPS2055ADG4; Continuous Current(Max)(A): 0.25; Current Limit(A): 0.5; Enable: Active High; NEMKO: TRUE; Number of Switches: 1; Rating: Catalog; rDS(on) per FET(Typ)(mOhms): 80; Vin(Max)(V): 5.5; Vin(Min)(V): 2.7; DatasheetVersion: SLVS251C; PackageVersion: revM, Jun-2011; PackageReference: D8; PackageDescription: 8-Pin Plastic Small Outline Integrated Circuit, 4.9 x 3.9 mm, Pitch 1.27 mm Pitch; Supplier 1: Digi-Key; Supplier Part Number 1: TPS2055ADG4-ND; Supplier 2: Newark; Supplier Part Number 2: 67K8611; Supplier 3: Mouser; Supplier Part Number 3: 595-TPS2055ADG4; Eco-Plan: Green (RoHS & no Sb/Br); UL Listed: TRUE; Mounting Technology: Surface Mount; Code_JEDEC: MS-012AA; ComponentLink1Description: Datasheet; ComponentLink1URL: http://www.ti.com/general/docs/lit/getliterature.tsp?genericPartNumber=TPS2055A&fileType=pdf
footprint D8_N (SOIC, 8-Leads, Body 4.9x3.9mm, Pitch 1.27mm, IPC Medium Density)
footprint D8_L (SOIC, 8-Leads, Body 4.9x3.9mm, Pitch 1.27mm, IPC High Density)
footprint D8_M (SOIC, 8-Leads, Body 4.9x3.9mm, Pitch 1.27mm, IPC Low Density)
pins: 1 GND (power) "Ground", 2 IN (power) "Input voltage", 3 IN (power) "Input voltage", 4 EN (in) "Enable input. Logic high turns on power switch.", 5 ~{OC} (oc) "Overcurrent. Open drain output active low", 6 OUT (power) "Power-switch output", 7 OUT (power) "Power-switch output", 8 OUT (power) "Power-switch output"

## TPS2055ADR
designator U?
0.345 A, 2.7 to 5.5 V Single Hi-Side MOSFET, Fault Report, Act-High Enable, 0.5 A Current Limit, 0 to 85 degC, 8-pin SOIC (D), Green (RoHS & no Sb/Br); Manufacturer: Texas Instruments; PartNumber: TPS2055ADR; Continuous Current(Max)(A): 0.25; Current Limit(A): 0.5; Enable: Active High; NEMKO: TRUE; Number of Switches: 1; Rating: Catalog; rDS(on) per FET(Typ)(mOhms): 80; Vin(Max)(V): 5.5; Vin(Min)(V): 2.7; DatasheetVersion: SLVS251C; PackageVersion: revM, Jun-2011; PackageReference: D8; PackageDescription: 8-Pin Plastic Small Outline Integrated Circuit, 4.9 x 3.9 mm, Pitch 1.27 mm Pitch; Supplier 1: Digi-Key; Supplier Part Number 1: TPS2055ADR-ND; Supplier 2: Newark; Supplier Part Number 2: 77C0014; Supplier 3: Mouser; Supplier Part Number 3: 595-TPS2055ADR; Eco-Plan: Green (RoHS & no Sb/Br); UL Listed: TRUE; Mounting Technology: Surface Mount; Code_JEDEC: MS-012AA; ComponentLink1Description: Datasheet; ComponentLink1URL: http://www.ti.com/general/docs/lit/getliterature.tsp?genericPartNumber=TPS2055A&fileType=pdf
footprint D8_N (SOIC, 8-Leads, Body 4.9x3.9mm, Pitch 1.27mm, IPC Medium Density)
footprint D8_L (SOIC, 8-Leads, Body 4.9x3.9mm, Pitch 1.27mm, IPC High Density)
footprint D8_M (SOIC, 8-Leads, Body 4.9x3.9mm, Pitch 1.27mm, IPC Low Density)
pins: 1 GND (power) "Ground", 2 IN (power) "Input voltage", 3 IN (power) "Input voltage", 4 EN (in) "Enable input. Logic high turns on power switch.", 5 ~{OC} (oc) "Overcurrent. Open drain output active low", 6 OUT (power) "Power-switch output", 7 OUT (power) "Power-switch output", 8 OUT (power) "Power-switch output"

## TPS2055ADRG4
designator U?
0.345 A, 2.7 to 5.5 V Single Hi-Side MOSFET, Fault Report, Act-High Enable, 0.5 A Current Limit, 0 to 85 degC, 8-pin SOIC (D), Green (RoHS & no Sb/Br); Manufacturer: Texas Instruments; PartNumber: TPS2055ADRG4; Continuous Current(Max)(A): 0.25; Current Limit(A): 0.5; Enable: Active High; NEMKO: TRUE; Number of Switches: 1; Rating: Catalog; rDS(on) per FET(Typ)(mOhms): 80; Vin(Max)(V): 5.5; Vin(Min)(V): 2.7; DatasheetVersion: SLVS251C; PackageVersion: revM, Jun-2011; PackageReference: D8; PackageDescription: 8-Pin Plastic Small Outline Integrated Circuit, 4.9 x 3.9 mm, Pitch 1.27 mm Pitch; Supplier 1: Digi-Key; Supplier Part Number 1: TPS2055ADRG4-ND; Supplier 2: Newark; Supplier Part Number 2: 33K7530; Supplier 3: Mouser; Supplier Part Number 3: 595-TPS2055ADRG4; Eco-Plan: Green (RoHS & no Sb/Br); UL Listed: TRUE; Mounting Technology: Surface Mount; Code_JEDEC: MS-012AA; ComponentLink1Description: Datasheet; ComponentLink1URL: http://www.ti.com/general/docs/lit/getliterature.tsp?genericPartNumber=TPS2055A&fileType=pdf
footprint D8_N (SOIC, 8-Leads, Body 4.9x3.9mm, Pitch 1.27mm, IPC Medium Density)
footprint D8_L (SOIC, 8-Leads, Body 4.9x3.9mm, Pitch 1.27mm, IPC High Density)
footprint D8_M (SOIC, 8-Leads, Body 4.9x3.9mm, Pitch 1.27mm, IPC Low Density)
pins: 1 GND (power) "Ground", 2 IN (power) "Input voltage", 3 IN (power) "Input voltage", 4 EN (in) "Enable input. Logic high turns on power switch.", 5 ~{OC} (oc) "Overcurrent. Open drain output active low", 6 OUT (power) "Power-switch output", 7 OUT (power) "Power-switch output", 8 OUT (power) "Power-switch output"

## TPS2056AD
designator U?
0.345 A, 2.7 to 5.5 V Dual (1 In / 2 Out) Hi-Side MOSFET, Fault Report, Act-High Enable, 0.5 A Current Limit, 0 to 85 degC, 8-pin SOIC (D), Green (RoHS & no Sb/Br); Manufacturer: Texas Instruments; PartNumber: TPS2056AD; Continuous Current(Max)(A): 0.25; Current Limit(A): 0.5; Enable: Active High; NEMKO: TRUE; Number of Switches: 2; Rating: Catalog; rDS(on) per FET(Typ)(mOhms): 80; Vin(Max)(V): 5.5; Vin(Min)(V): 2.7; DatasheetVersion: SLVS251C; PackageVersion: revM, Jun-2011; PackageReference: D8; PackageDescription: 8-Pin Plastic Small Outline Integrated Circuit, 4.9 x 3.9 mm, Pitch 1.27 mm Pitch; Supplier 1: Digi-Key; Supplier Part Number 1: 296-3421-5-ND; Supplier 2: Mouser; Supplier Part Number 2: 595-TPS2056AD; Eco-Plan: Green (RoHS & no Sb/Br); UL Listed: TRUE; Mounting Technology: Surface Mount; Code_JEDEC: MS-012AA; ComponentLink1Description: Datasheet; ComponentLink1URL: http://www.ti.com/general/docs/lit/getliterature.tsp?genericPartNumber=TPS2056A&fileType=pdf
footprint D8_N (SOIC, 8-Leads, Body 4.9x3.9mm, Pitch 1.27mm, IPC Medium Density)
footprint D8_L (SOIC, 8-Leads, Body 4.9x3.9mm, Pitch 1.27mm, IPC High Density)
footprint D8_M (SOIC, 8-Leads, Body 4.9x3.9mm, Pitch 1.27mm, IPC Low Density)
pins: 1 GND (power) "Ground", 2 IN (power) "Input voltage", 3 EN1 (in) "Enable input. Logic high turns on power switch, IN-OUT1.", 4 EN2 (in) "Enable input. Logic high turns on power switch, IN-OUT2.", 5 ~{OC2} (oc) "Overcurrent, open-drain output, active low, IN-OUT2", 6 OUT2 (power) "Power-switch output, IN-OUT2", 7 OUT1 (power) "Power-switch output, IN-OUT1", 8 ~{OC1} (oc) "Overcurrent, open-drain output, active low, IN-OUT1"

## TPS2056ADG4
designator U?
0.345 A, 2.7 to 5.5 V Dual (1 In / 2 Out) Hi-Side MOSFET, Fault Report, Act-High Enable, 0.5 A Current Limit, 0 to 85 degC, 8-pin SOIC (D), Green (RoHS & no Sb/Br); Manufacturer: Texas Instruments; PartNumber: TPS2056ADG4; Continuous Current(Max)(A): 0.25; Current Limit(A): 0.5; Enable: Active High; NEMKO: TRUE; Number of Switches: 2; Rating: Catalog; rDS(on) per FET(Typ)(mOhms): 80; Vin(Max)(V): 5.5; Vin(Min)(V): 2.7; DatasheetVersion: SLVS251C; PackageVersion: revM, Jun-2011; PackageReference: D8; PackageDescription: 8-Pin Plastic Small Outline Integrated Circuit, 4.9 x 3.9 mm, Pitch 1.27 mm Pitch; Supplier 1: Digi-Key; Supplier Part Number 1: TPS2056ADG4-ND; Supplier 2: Newark; Supplier Part Number 2: 14M2488; Supplier 3: Mouser; Supplier Part Number 3: 595-TPS2056ADG4; Eco-Plan: Green (RoHS & no Sb/Br); UL Listed: TRUE; Mounting Technology: Surface Mount; Code_JEDEC: MS-012AA; ComponentLink1Description: Datasheet; ComponentLink1URL: http://www.ti.com/general/docs/lit/getliterature.tsp?genericPartNumber=TPS2056A&fileType=pdf
footprint D8_N (SOIC, 8-Leads, Body 4.9x3.9mm, Pitch 1.27mm, IPC Medium Density)
footprint D8_L (SOIC, 8-Leads, Body 4.9x3.9mm, Pitch 1.27mm, IPC High Density)
footprint D8_M (SOIC, 8-Leads, Body 4.9x3.9mm, Pitch 1.27mm, IPC Low Density)
pins: 1 GND (power) "Ground", 2 IN (power) "Input voltage", 3 EN1 (in) "Enable input. Logic high turns on power switch, IN-OUT1.", 4 EN2 (in) "Enable input. Logic high turns on power switch, IN-OUT2.", 5 ~{OC2} (oc) "Overcurrent, open-drain output, active low, IN-OUT2", 6 OUT2 (power) "Power-switch output, IN-OUT2", 7 OUT1 (power) "Power-switch output, IN-OUT1", 8 ~{OC1} (oc) "Overcurrent, open-drain output, active low, IN-OUT1"

## TPS2056ADR
designator U?
0.345 A, 2.7 to 5.5 V Dual (1 In / 2 Out) Hi-Side MOSFET, Fault Report, Act-High Enable, 0.5 A Current Limit, 0 to 85 degC, 8-pin SOIC (D), Green (RoHS & no Sb/Br); Manufacturer: Texas Instruments; PartNumber: TPS2056ADR; Continuous Current(Max)(A): 0.25; Current Limit(A): 0.5; Enable: Active High; NEMKO: TRUE; Number of Switches: 2; Rating: Catalog; rDS(on) per FET(Typ)(mOhms): 80; Vin(Max)(V): 5.5; Vin(Min)(V): 2.7; DatasheetVersion: SLVS251C; PackageVersion: revM, Jun-2011; PackageReference: D8; PackageDescription: 8-Pin Plastic Small Outline Integrated Circuit, 4.9 x 3.9 mm, Pitch 1.27 mm Pitch; Supplier 1: Digi-Key; Supplier Part Number 1: TPS2056ADR-ND; Supplier 2: Newark; Supplier Part Number 2: 77C0019; Supplier 3: Mouser; Supplier Part Number 3: 595-TPS2056ADR; Eco-Plan: Green (RoHS & no Sb/Br); UL Listed: TRUE; Mounting Technology: Surface Mount; Code_JEDEC: MS-012AA; ComponentLink1Description: Datasheet; ComponentLink1URL: http://www.ti.com/general/docs/lit/getliterature.tsp?genericPartNumber=TPS2056A&fileType=pdf
footprint D8_N (SOIC, 8-Leads, Body 4.9x3.9mm, Pitch 1.27mm, IPC Medium Density)
footprint D8_L (SOIC, 8-Leads, Body 4.9x3.9mm, Pitch 1.27mm, IPC High Density)
footprint D8_M (SOIC, 8-Leads, Body 4.9x3.9mm, Pitch 1.27mm, IPC Low Density)
pins: 1 GND (power) "Ground", 2 IN (power) "Input voltage", 3 EN1 (in) "Enable input. Logic high turns on power switch, IN-OUT1.", 4 EN2 (in) "Enable input. Logic high turns on power switch, IN-OUT2.", 5 ~{OC2} (oc) "Overcurrent, open-drain output, active low, IN-OUT2", 6 OUT2 (power) "Power-switch output, IN-OUT2", 7 OUT1 (power) "Power-switch output, IN-OUT1", 8 ~{OC1} (oc) "Overcurrent, open-drain output, active low, IN-OUT1"

## TPS2056ADRG4
designator U?
0.345 A, 2.7 to 5.5 V Dual (1 In / 2 Out) Hi-Side MOSFET, Fault Report, Act-High Enable, 0.5 A Current Limit, 0 to 85 degC, 8-pin SOIC (D), Green (RoHS & no Sb/Br); Manufacturer: Texas Instruments; PartNumber: TPS2056ADRG4; Continuous Current(Max)(A): 0.25; Current Limit(A): 0.5; Enable: Active High; NEMKO: TRUE; Number of Switches: 2; Rating: Catalog; rDS(on) per FET(Typ)(mOhms): 80; Vin(Max)(V): 5.5; Vin(Min)(V): 2.7; DatasheetVersion: SLVS251C; PackageVersion: revM, Jun-2011; PackageReference: D8; PackageDescription: 8-Pin Plastic Small Outline Integrated Circuit, 4.9 x 3.9 mm, Pitch 1.27 mm Pitch; Supplier 1: Digi-Key; Supplier Part Number 1: TPS2056ADRG4-ND; Supplier 2: Newark; Supplier Part Number 2: 33K7533; Supplier 3: Mouser; Supplier Part Number 3: 595-TPS2056ADRG4; Eco-Plan: Green (RoHS & no Sb/Br); UL Listed: TRUE; Mounting Technology: Surface Mount; Code_JEDEC: MS-012AA; ComponentLink1Description: Datasheet; ComponentLink1URL: http://www.ti.com/general/docs/lit/getliterature.tsp?genericPartNumber=TPS2056A&fileType=pdf
footprint D8_N (SOIC, 8-Leads, Body 4.9x3.9mm, Pitch 1.27mm, IPC Medium Density)
footprint D8_L (SOIC, 8-Leads, Body 4.9x3.9mm, Pitch 1.27mm, IPC High Density)
footprint D8_M (SOIC, 8-Leads, Body 4.9x3.9mm, Pitch 1.27mm, IPC Low Density)
pins: 1 GND (power) "Ground", 2 IN (power) "Input voltage", 3 EN1 (in) "Enable input. Logic high turns on power switch, IN-OUT1.", 4 EN2 (in) "Enable input. Logic high turns on power switch, IN-OUT2.", 5 ~{OC2} (oc) "Overcurrent, open-drain output, active low, IN-OUT2", 6 OUT2 (power) "Power-switch output, IN-OUT2", 7 OUT1 (power) "Power-switch output, IN-OUT1", 8 ~{OC1} (oc) "Overcurrent, open-drain output, active low, IN-OUT1"

## TPS2057AD
designator U?
0.345 A, 2.7 to 5.5 V Triple (2 In / 3 Out) Hi-Side MOSFET, Fault Report, Act-High Enable, 0.5 A Current Limit, 0 to 85 degC, 16-pin SOIC (D), Green (RoHS & no Sb/Br); Manufacturer: Texas Instruments; PartNumber: TPS2057AD; Continuous Current(Max)(A): 0.25; Current Limit(A): 0.5; Enable: Active High; NEMKO: TRUE; Number of Switches: 3; Rating: Catalog; rDS(on) per FET(Typ)(mOhms): 80; Vin(Max)(V): 5.5; Vin(Min)(V): 2.7; DatasheetVersion: SLVS251C; PackageVersion: revM, Jun-2011; PackageReference: D16; PackageDescription: 16-Pin Plastic Small Outline Integrated Circuit, 9.9 x 3.9 mm, Pitch 1.27 mm Pitch; Supplier 1: Digi-Key; Supplier Part Number 1: 296-3423-5-ND; Supplier 2: Newark; Supplier Part Number 2: 77C0023; Supplier 3: Mouser; Supplier Part Number 3: 595-TPS2057AD; Eco-Plan: Green (RoHS & no Sb/Br); UL Listed: TRUE; Mounting Technology: Surface Mount; Code_JEDEC: MS-012AC; ComponentLink1Description: Datasheet; ComponentLink1URL: http://www.ti.com/general/docs/lit/getliterature.tsp?genericPartNumber=TPS2057A&fileType=pdf
footprint D16_N (SOIC, 16-Leads, Body 9.9x3.9mm, Pitch 1.27mm, IPC Medium Density)
footprint D16_L (SOIC, 16-Leads, Body 9.9x3.9mm, Pitch 1.27mm, IPC High Density)
footprint D16_M (SOIC, 16-Leads, Body 9.9x3.9mm, Pitch 1.27mm, IPC Low Density)
part A pins: 1 GNDA (power) "Ground for IN1 switch and circuitry.", 2 IN1 (power) "Input voltage", 3 EN1 (in) "Enable input, logic high turns on power switch, IN1-OUT1.", 4 EN2 (in) "Enable input, logic high turns on power switch, IN1-OUT2.", 13 ~{OC2} (oc) "Overcurrent, open drain output active low, IN1-OUT2", 14 OUT2 (power) "Power-switch output, IN1-OUT2", 15 OUT1 (power) "Power-switch output, IN1-OUT1", 16 ~{OC1} (oc) "Overcurrent, open drain output active low, IN1-OUT1"
part B pins: 5 GNDB (power) "Ground for IN2 switch and circuitry.", 6 IN2 (power) "Input voltage", 7 EN3 (in) "Enable input, logic high turns on power switch, IN2-OUT3.", 11 OUT3 (power) "Power-switch output, IN2-OUT3", 12 ~{OC3} (oc) "Overcurrent, open drain output active low, IN2-OUT3"
part C pins: 8 NC "No connection", 9 NC "No connection", 10 NC "No connection"

## TPS2057ADG4
designator U?
0.345 A, 2.7 to 5.5 V Triple (2 In / 3 Out) Hi-Side MOSFET, Fault Report, Act-High Enable, 0.5 A Current Limit, 0 to 85 degC, 16-pin SOIC (D), Green (RoHS & no Sb/Br); Manufacturer: Texas Instruments; PartNumber: TPS2057ADG4; Continuous Current(Max)(A): 0.25; Current Limit(A): 0.5; Enable: Active High; NEMKO: TRUE; Number of Switches: 3; Rating: Catalog; rDS(on) per FET(Typ)(mOhms): 80; Vin(Max)(V): 5.5; Vin(Min)(V): 2.7; DatasheetVersion: SLVS251C; PackageVersion: revM, Jun-2011; PackageReference: D16; PackageDescription: 16-Pin Plastic Small Outline Integrated Circuit, 9.9 x 3.9 mm, Pitch 1.27 mm Pitch; Supplier 1: Digi-Key; Supplier Part Number 1: TPS2057ADG4-ND; Supplier 2: Newark; Supplier Part Number 2: 54K1548; Supplier 3: Mouser; Supplier Part Number 3: 595-TPS2057ADG4; Eco-Plan: Green (RoHS & no Sb/Br); UL Listed: TRUE; Mounting Technology: Surface Mount; Code_JEDEC: MS-012AC; ComponentLink1Description: Datasheet; ComponentLink1URL: http://www.ti.com/general/docs/lit/getliterature.tsp?genericPartNumber=TPS2057A&fileType=pdf
footprint D16_N (SOIC, 16-Leads, Body 9.9x3.9mm, Pitch 1.27mm, IPC Medium Density)
footprint D16_L (SOIC, 16-Leads, Body 9.9x3.9mm, Pitch 1.27mm, IPC High Density)
footprint D16_M (SOIC, 16-Leads, Body 9.9x3.9mm, Pitch 1.27mm, IPC Low Density)
part A pins: 1 GNDA (power) "Ground for IN1 switch and circuitry.", 2 IN1 (power) "Input voltage", 3 EN1 (in) "Enable input, logic high turns on power switch, IN1-OUT1.", 4 EN2 (in) "Enable input, logic high turns on power switch, IN1-OUT2.", 13 ~{OC2} (oc) "Overcurrent, open drain output active low, IN1-OUT2", 14 OUT2 (power) "Power-switch output, IN1-OUT2", 15 OUT1 (power) "Power-switch output, IN1-OUT1", 16 ~{OC1} (oc) "Overcurrent, open drain output active low, IN1-OUT1"
part B pins: 5 GNDB (power) "Ground for IN2 switch and circuitry.", 6 IN2 (power) "Input voltage", 7 EN3 (in) "Enable input, logic high turns on power switch, IN2-OUT3.", 11 OUT3 (power) "Power-switch output, IN2-OUT3", 12 ~{OC3} (oc) "Overcurrent, open drain output active low, IN2-OUT3"
part C pins: 8 NC "No connection", 9 NC "No connection", 10 NC "No connection"

## TPS2057ADR
designator U?
0.345 A, 2.7 to 5.5 V Triple (2 In / 3 Out) Hi-Side MOSFET, Fault Report, Act-High Enable, 0.5 A Current Limit, 0 to 85 degC, 16-pin SOIC (D), Green (RoHS & no Sb/Br); Manufacturer: Texas Instruments; PartNumber: TPS2057ADR; Continuous Current(Max)(A): 0.25; Current Limit(A): 0.5; Enable: Active High; NEMKO: TRUE; Number of Switches: 3; Rating: Catalog; rDS(on) per FET(Typ)(mOhms): 80; Vin(Max)(V): 5.5; Vin(Min)(V): 2.7; DatasheetVersion: SLVS251C; PackageVersion: revM, Jun-2011; PackageReference: D16; PackageDescription: 16-Pin Plastic Small Outline Integrated Circuit, 9.9 x 3.9 mm, Pitch 1.27 mm Pitch; Supplier 1: Digi-Key; Supplier Part Number 1: TPS2057ADR-ND; Supplier 2: Newark; Supplier Part Number 2: 77C0024; Supplier 3: Mouser; Supplier Part Number 3: 595-TPS2057ADR; Eco-Plan: Green (RoHS & no Sb/Br); UL Listed: TRUE; Mounting Technology: Surface Mount; Code_JEDEC: MS-012AC; ComponentLink1Description: Datasheet; ComponentLink1URL: http://www.ti.com/general/docs/lit/getliterature.tsp?genericPartNumber=TPS2057A&fileType=pdf
footprint D16_N (SOIC, 16-Leads, Body 9.9x3.9mm, Pitch 1.27mm, IPC Medium Density)
footprint D16_L (SOIC, 16-Leads, Body 9.9x3.9mm, Pitch 1.27mm, IPC High Density)
footprint D16_M (SOIC, 16-Leads, Body 9.9x3.9mm, Pitch 1.27mm, IPC Low Density)
part A pins: 1 GNDA (power) "Ground for IN1 switch and circuitry.", 2 IN1 (power) "Input voltage", 3 EN1 (in) "Enable input, logic high turns on power switch, IN1-OUT1.", 4 EN2 (in) "Enable input, logic high turns on power switch, IN1-OUT2.", 13 ~{OC2} (oc) "Overcurrent, open drain output active low, IN1-OUT2", 14 OUT2 (power) "Power-switch output, IN1-OUT2", 15 OUT1 (power) "Power-switch output, IN1-OUT1", 16 ~{OC1} (oc) "Overcurrent, open drain output active low, IN1-OUT1"
part B pins: 5 GNDB (power) "Ground for IN2 switch and circuitry.", 6 IN2 (power) "Input voltage", 7 EN3 (in) "Enable input, logic high turns on power switch, IN2-OUT3.", 11 OUT3 (power) "Power-switch output, IN2-OUT3", 12 ~{OC3} (oc) "Overcurrent, open drain output active low, IN2-OUT3"
part C pins: 8 NC "No connection", 9 NC "No connection", 10 NC "No connection"